# Altium footprint library C4AQIBW5400A3OJ.PcbLib: 1 footprints
Each footprint in its own frame and in the unit in brackets; x right, y up, seen from the top. Pads: shape width x height; smd on the part's side, far side on the other; paste and mask are expansions set on the pad; w line width, h text height; cw(c..) or ccw(c..) is an arc to the next point about the centre after c.
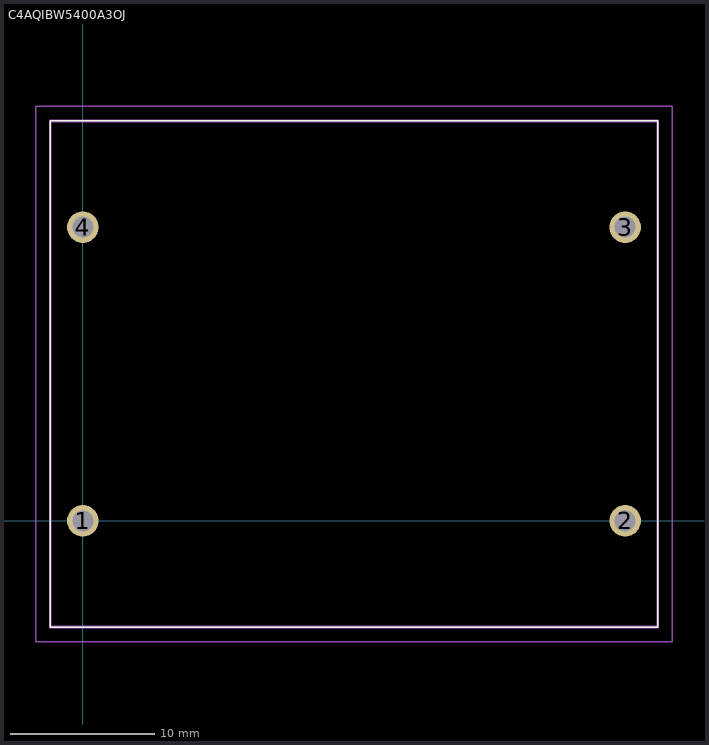
[diagram p0: the footprint, top view; thin cyan lines are the x and y axes]

## C4AQIBW5400A3OJ [mm]
pads (4):
  round 2.175 hole 1.45: 1(0,0) 2(37.5,0) 3(37.5,20.3) 4(0,20.3)
Top Overlay:
  lines w0.1: -2.25,-7.35 39.75,-7.35 39.75,27.65 -2.25,27.65 -2.25,-7.35
Mechanical 15:
  lines w0.2: -2.25,-7.35 39.75,-7.35 39.75,27.65 -2.25,27.65 -2.25,-7.35
Mechanical 20:
  lines w0.1: -3.25,-8.35 40.75,-8.35 40.75,28.65 -3.25,28.65 -3.25,-8.35